# EAGLE library part TRANSFORMER_SCHOTT_37246 (library TEABOX-LIB)
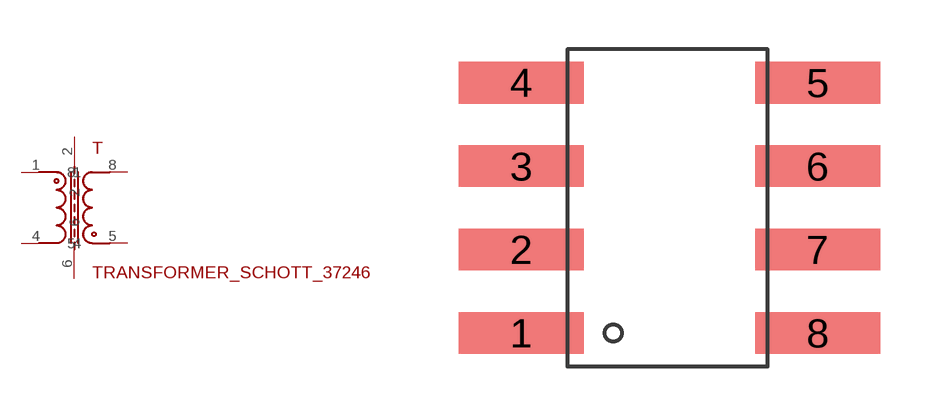
[diagram p2: symbol with the pads of TRANSFORMER_SCHOTT_22133; footprint TRANSFORMER_SCHOTT_22133]

Designator prefix T

## TRANSFORMER_SCHOTT_37246  [TRANSFORMER_SCHOTT_22133]
1  1
2  2
4  4
5  5
6  6
8  8

## Footprint TRANSFORMER_SCHOTT_22133 (pad centres in mm)
smd 3.81 x 1.27: 1 -1.397,-8.128; 2 -1.397,-5.588; 3 -1.397,-3.048; 4 -1.397,-0.508; 5 7.62,-0.508; 6 7.62,-3.048; 7 7.62,-5.588; 8 7.62,-8.128